# Altium footprint library texas_insturments_interface_LVDS.PcbLib: 6 footprints
Each footprint in its own frame and in the unit in brackets; x right, y up, seen from the top. Pads: shape width x height; smd on the part's side, far side on the other; paste and mask are expansions set on the pad; w line width, h text height; cw(c..) or ccw(c..) is an arc to the next point about the centre after c.
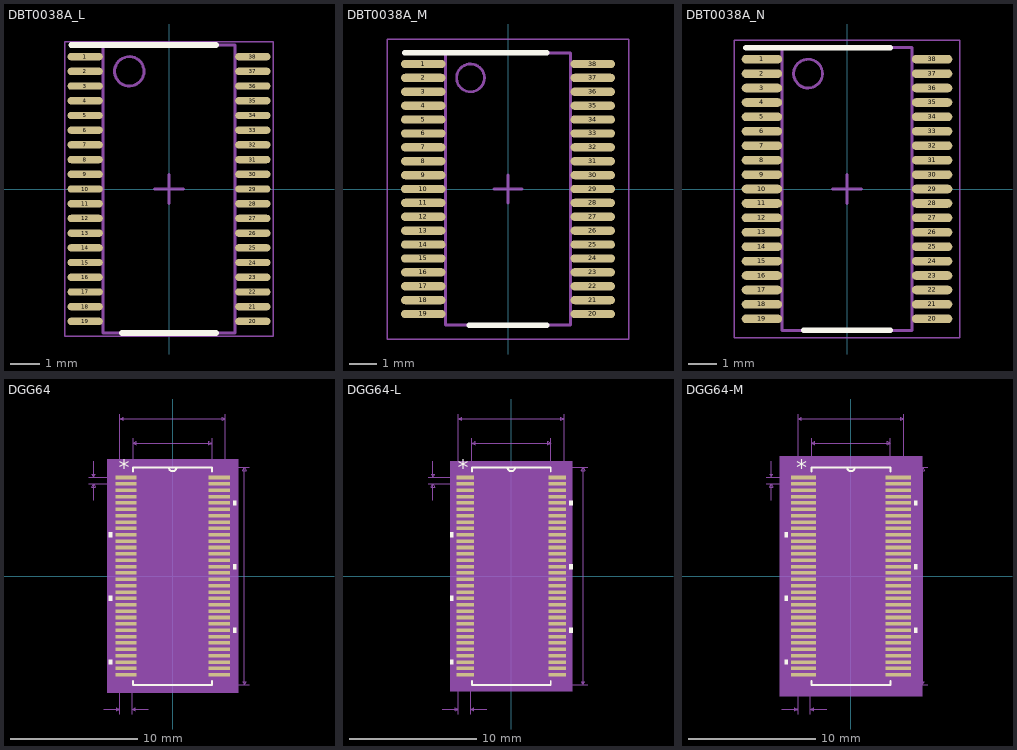
[diagram p0: the footprints below, top view; thin cyan lines are the x and y axes]

## DBT0038A_L [mm]
pads (38):
  oval 1.2x0.25 smd paste+0 mask+0: 1(-2.85,4.5) 2(-2.85,4) 3(-2.85,3.5) 4(-2.85,3) 5(-2.85,2.5) 6(-2.85,2) 7(-2.85,1.5) 8(-2.85,1) 9(-2.85,0.5) 10(-2.85,0) 11(-2.85,-0.5) 12(-2.85,-1) 13(-2.85,-1.5) 14(-2.85,-2) 15(-2.85,-2.5) 16(-2.85,-3) 17(-2.85,-3.5) 18(-2.85,-4) 19(-2.85,-4.5) 20(2.85,-4.5) 21(2.85,-4) 22(2.85,-3.5) 23(2.85,-3) 24(2.85,-2.5) 25(2.85,-2) 26(2.85,-1.5) 27(2.85,-1) 28(2.85,-0.5) 29(2.85,0) 30(2.85,0.5) 31(2.85,1) 32(2.85,1.5) 33(2.85,2) 34(2.85,2.5) 35(2.85,3) 36(2.85,3.5) 37(2.85,4) 38(2.85,4.5)
Top Overlay:
  lines w0.2: -3.325,4.9 1.6,4.9 ; -1.6,-4.9 1.6,-4.9
Top Fab Assembly - M13:
  circle w0.1: c-1.35,4 r0.5
  lines w0.1: -2.25,-4.9 2.25,-4.9 2.25,4.9 -2.25,4.9 -2.25,-4.9
  text ".Designator" at -1.854,-1.143 h1.27
Top Courtyard - M15:
  lines w0.05: -3.55,-5 -3.55,5 3.55,5 3.55,-5 -3.55,-5
  lines w0.1: -0.5,0 0.5,0 ; 0,-0.5 0,0.5
3D body: height 0.25, standoff 0, extent 0,0 0.254,0.254

## DBT0038A_M [mm]
pads (38):
  oval 1.6x0.3 smd paste+0 mask+0: 1(-3.05,4.5) 2(-3.05,4) 3(-3.05,3.5) 4(-3.05,3) 5(-3.05,2.5) 6(-3.05,2) 7(-3.05,1.5) 8(-3.05,1) 9(-3.05,0.5) 10(-3.05,0) 11(-3.05,-0.5) 12(-3.05,-1) 13(-3.05,-1.5) 14(-3.05,-2) 15(-3.05,-2.5) 16(-3.05,-3) 17(-3.05,-3.5) 18(-3.05,-4) 19(-3.05,-4.5) 20(3.05,-4.5) 21(3.05,-4) 22(3.05,-3.5) 23(3.05,-3) 24(3.05,-2.5) 25(3.05,-2) 26(3.05,-1.5) 27(3.05,-1) 28(3.05,-0.5) 29(3.05,0) 30(3.05,0.5) 31(3.05,1) 32(3.05,1.5) 33(3.05,2) 34(3.05,2.5) 35(3.05,3) 36(3.05,3.5) 37(3.05,4) 38(3.05,4.5)
Top Overlay:
  lines w0.2: -3.725,4.9 1.4,4.9 ; -1.4,-4.9 1.4,-4.9
Top Fab Assembly - M13:
  circle w0.1: c-1.35,4 r0.5
  lines w0.1: -2.25,-4.9 2.25,-4.9 2.25,4.9 -2.25,4.9 -2.25,-4.9
  text ".Designator" at -1.854,-1.143 h1.27
Top Courtyard - M15:
  lines w0.05: -4.35,-5.4 -4.35,5.4 4.35,5.4 4.35,-5.4 -4.35,-5.4
  lines w0.1: -0.5,0 0.5,0 ; 0,-0.5 0,0.5
3D body: height 0.25, standoff 0, extent 0,0 0.254,0.254

## DBT0038A_N [mm]
pads (38):
  oval 1.4x0.3 smd paste+0 mask+0: 1(-2.95,4.5) 2(-2.95,4) 3(-2.95,3.5) 4(-2.95,3) 5(-2.95,2.5) 6(-2.95,2) 7(-2.95,1.5) 8(-2.95,1) 9(-2.95,0.5) 10(-2.95,0) 11(-2.95,-0.5) 12(-2.95,-1) 13(-2.95,-1.5) 14(-2.95,-2) 15(-2.95,-2.5) 16(-2.95,-3) 17(-2.95,-3.5) 18(-2.95,-4) 19(-2.95,-4.5) 20(2.95,-4.5) 21(2.95,-4) 22(2.95,-3.5) 23(2.95,-3) 24(2.95,-2.5) 25(2.95,-2) 26(2.95,-1.5) 27(2.95,-1) 28(2.95,-0.5) 29(2.95,0) 30(2.95,0.5) 31(2.95,1) 32(2.95,1.5) 33(2.95,2) 34(2.95,2.5) 35(2.95,3) 36(2.95,3.5) 37(2.95,4) 38(2.95,4.5)
Top Overlay:
  lines w0.2: -3.5,4.9 1.5,4.9 ; -1.5,-4.9 1.5,-4.9
Top Fab Assembly - M13:
  circle w0.1: c-1.35,4 r0.5
  lines w0.1: -2.25,-4.9 -2.25,4.9 2.25,4.9 2.25,-4.9 -2.25,-4.9
  text ".Designator" at -1.854,-1.143 h1.27
Top Courtyard - M15:
  lines w0.05: -3.9,-5.15 -3.9,5.15 3.9,5.15 3.9,-5.15 -3.9,-5.15
  lines w0.1: -0.5,0 0.5,0 ; 0,-0.5 0,0.5
3D body: height 0.25, standoff 0, extent 0,0 0.254,0.254
3D body "DBT0038A.stp": height 1.13, standoff 0, extent -3.2,-4.85 3.2,4.85

## DGG64 [mil]
pads (64):
  rect 66x11 smd: 1(-144.5,305.12) 2(-144.5,285.43) 3(-144.5,265.75) 4(-144.5,246.06) 5(-144.5,226.38) 6(-144.5,206.69) 7(-144.5,187.01) 8(-144.5,167.32) 9(-144.5,147.64) 10(-144.5,127.95) 11(-144.5,108.27) 12(-144.5,88.58) 13(-144.5,68.9) 14(-144.5,49.21) 15(-144.5,29.53) 16(-144.5,9.84) 17(-144.5,-9.84) 18(-144.5,-29.53) 19(-144.5,-49.21) 20(-144.5,-68.9) 21(-144.5,-88.58) 22(-144.5,-108.27) 23(-144.5,-127.95) 24(-144.5,-147.64) 25(-144.5,-167.32) 26(-144.5,-187.01) 27(-144.5,-206.69) 28(-144.5,-226.38) 29(-144.5,-246.06) 30(-144.5,-265.75) 31(-144.5,-285.43) 32(-144.5,-305.12) 33(144.5,-305.12) 34(144.5,-285.43) 35(144.5,-265.75) 36(144.5,-246.06) 37(144.5,-226.38) 38(144.5,-206.69) 39(144.5,-187.01) 40(144.5,-167.32) 41(144.5,-147.64) 42(144.5,-127.95) 43(144.5,-108.27) 44(144.5,-88.58) 45(144.5,-68.9) 46(144.5,-49.21) 47(144.5,-29.53) 48(144.5,-9.84) 49(144.5,9.84) 50(144.5,29.53) 51(144.5,49.21) 52(144.5,68.9) 53(144.5,88.58) 54(144.5,108.27) 55(144.5,127.95) 56(144.5,147.64) 57(144.5,167.32) 58(144.5,187.01) 59(144.5,206.69) 60(144.5,226.38) 61(144.5,246.06) 62(144.5,265.75) 63(144.5,285.43) 64(144.5,305.12)
Top Overlay:
  region: 187.5,233.88 197.5,233.88 197.5,218.88 187.5,218.88
  region: 187.5,37.03 197.5,37.03 197.5,22.03 187.5,22.03
  region: 187.5,-159.82 197.5,-159.82 197.5,-174.82 187.5,-174.82
  region: -187.5,-258.25 -197.5,-258.25 -197.5,-273.25 -187.5,-273.25
  region: -187.5,-61.4 -197.5,-61.4 -197.5,-76.4 -187.5,-76.4
  region: -187.5,135.45 -197.5,135.45 -197.5,120.45 -187.5,120.45
  lines w6: -122,-323.72 -122,-336.5 122,-336.5 122,-323.72 ; -122,323.72 -122,336.5 122,336.5 122,323.72 ; -12,336.5 ccw(c0,336.5) 12,336.5
  text "*" at -167,311.12 h50
Mechanical 5:
  region: 202.5,-361.5 -202.5,-361.5 -202.5,361.5 202.5,361.5
Mechanical 7:
  lines w1: -259.5,285.43 -144.5,285.43 ; -259.5,305.12 -144.5,305.12 ; -244.5,235.43 -244.5,285.43 ; -244.5,355.12 -244.5,305.12 ; -213.5,-411.5 -163.5,-411.5 ; -163.5,-426.5 -163.5,0 -163.5,501.5 ; -125.5,-426.5 -125.5,0 ; -122,0 -122,426.5 ; -75.5,-411.5 -125.5,-411.5 ; 0,-336.5 237,-336.5 ; 0,336.5 237,336.5 ; 122,0 122,426.5 ; 163.5,0 163.5,501.5 ; -244.5,285.43 -239.5,275.43 -249.5,275.43 -244.5,285.43 ; -244.5,305.12 -239.5,315.12 -249.5,315.12 -244.5,305.12 ; -163.5,-411.5 -173.5,-416.5 -173.5,-406.5 -163.5,-411.5 ; -163.5,486.5 -153.5,481.5 -153.5,491.5 -163.5,486.5 ; -163.5,486.5 163.5,486.5 ; -125.5,-411.5 -115.5,-416.5 -115.5,-406.5 -125.5,-411.5 ; -122,411.5 -112,406.5 -112,416.5 -122,411.5 ; -122,411.5 122,411.5 ; 122,411.5 112,406.5 112,416.5 122,411.5 ; 163.5,486.5 153.5,481.5 153.5,491.5 163.5,486.5 ; 222,-336.5 227,-326.5 217,-326.5 222,-336.5 ; 222,-336.5 222,336.5 ; 222,336.5 227,326.5 217,326.5 222,336.5
  text ".03in/.762mm" at -219.5,-456.5 h25
  text "1.968504E-02in/.5mm" at -502,282.78 h25
  text ".673in/17.094mm" at 242,-12.5 h25
  text ".327in/8.306mm" at -87.5,506.5 h25
  text ".244in/6.198mm" at -87.5,431.5 h25
  text "Alt 2 Padstyle: OX90Y60D30P" at -337.5,-761.5 h50
  text "Alt 1 Padstyle: OX60Y90D30P" at -337.5,-686.5 h50
  text "Pin One Padstyle: RX66Y11D0T" at -350,-611.5 h50
  text "Default Padstyle: RX66Y11D0T" at -350,-536.5 h50
Top Fab Assembly - M13:
  drawing of 261 lines, arcs and shapes, not listed
  text "*" at -167,311.12 h50
Top Courtyard - M15:
  region: 187.5,-346.5 -187.5,-346.5 -187.5,346.5 187.5,346.5
  lines w6: -187.5,-346.5 187.5,-346.5 187.5,346.5 -187.5,346.5 -187.5,-346.5
3D body: height 10, standoff 0, extent 0,0 10,10
3D body "DGG64.step": height 47.09, standoff 0, extent -163.5,-336.49 163.51,336.5

## DGG64-L [mil]
pads (64):
  rect 54x11 smd: 1(-142.5,305.12) 2(-142.5,285.43) 3(-142.5,265.75) 4(-142.5,246.06) 5(-142.5,226.38) 6(-142.5,206.69) 7(-142.5,187.01) 8(-142.5,167.32) 9(-142.5,147.64) 10(-142.5,127.95) 11(-142.5,108.27) 12(-142.5,88.58) 13(-142.5,68.9) 14(-142.5,49.21) 15(-142.5,29.53) 16(-142.5,9.84) 17(-142.5,-9.84) 18(-142.5,-29.53) 19(-142.5,-49.21) 20(-142.5,-68.9) 21(-142.5,-88.58) 22(-142.5,-108.27) 23(-142.5,-127.95) 24(-142.5,-147.64) 25(-142.5,-167.32) 26(-142.5,-187.01) 27(-142.5,-206.69) 28(-142.5,-226.38) 29(-142.5,-246.06) 30(-142.5,-265.75) 31(-142.5,-285.43) 32(-142.5,-305.12) 33(142.5,-305.12) 34(142.5,-285.43) 35(142.5,-265.75) 36(142.5,-246.06) 37(142.5,-226.38) 38(142.5,-206.69) 39(142.5,-187.01) 40(142.5,-167.32) 41(142.5,-147.64) 42(142.5,-127.95) 43(142.5,-108.27) 44(142.5,-88.58) 45(142.5,-68.9) 46(142.5,-49.21) 47(142.5,-29.53) 48(142.5,-9.84) 49(142.5,9.84) 50(142.5,29.53) 51(142.5,49.21) 52(142.5,68.9) 53(142.5,88.58) 54(142.5,108.27) 55(142.5,127.95) 56(142.5,147.64) 57(142.5,167.32) 58(142.5,187.01) 59(142.5,206.69) 60(142.5,226.38) 61(142.5,246.06) 62(142.5,265.75) 63(142.5,285.43) 64(142.5,305.12)
Top Overlay:
  region: -179.5,135.45 -189.5,135.45 -189.5,120.45 -179.5,120.45
  region: -179.5,-61.4 -189.5,-61.4 -189.5,-76.4 -179.5,-76.4
  region: -179.5,-258.25 -189.5,-258.25 -189.5,-273.25 -179.5,-273.25
  region: 179.5,-159.82 189.5,-159.82 189.5,-174.82 179.5,-174.82
  region: 179.5,37.03 189.5,37.03 189.5,22.03 179.5,22.03
  region: 179.5,233.88 189.5,233.88 189.5,218.88 179.5,218.88
  lines w6: -122,-323.72 -122,-336.5 122,-336.5 122,-323.72 ; -122,323.72 -122,336.5 122,336.5 122,323.72 ; -12,336.5 ccw(c0,336.5) 12,336.5
  text "*" at -165,311.12 h50
Mechanical 5:
  region: 188.5,-355.5 -188.5,-355.5 -188.5,355.5 188.5,355.5
Mechanical 7:
  lines w1: -257.5,285.43 -142.5,285.43 ; -257.5,305.12 -142.5,305.12 ; -242.5,235.43 -242.5,285.43 ; -242.5,355.12 -242.5,305.12 ; -213.5,-411.5 -163.5,-411.5 ; -163.5,-426.5 -163.5,0 -163.5,501.5 ; -125.5,-426.5 -125.5,0 ; -122,0 -122,426.5 ; -75.5,-411.5 -125.5,-411.5 ; 0,-336.5 237,-336.5 ; 0,336.5 237,336.5 ; 122,0 122,426.5 ; 163.5,0 163.5,501.5 ; -242.5,285.43 -247.5,275.43 -237.5,275.43 -242.5,285.43 ; -242.5,305.12 -247.5,315.12 -237.5,315.12 -242.5,305.12 ; -163.5,-411.5 -173.5,-406.5 -173.5,-416.5 -163.5,-411.5 ; -163.5,486.5 163.5,486.5 ; -163.5,486.5 -153.5,491.5 -153.5,481.5 -163.5,486.5 ; -125.5,-411.5 -115.5,-406.5 -115.5,-416.5 -125.5,-411.5 ; -122,411.5 122,411.5 ; -122,411.5 -112,416.5 -112,406.5 -122,411.5 ; 122,411.5 112,416.5 112,406.5 122,411.5 ; 163.5,486.5 153.5,491.5 153.5,481.5 163.5,486.5 ; 222,-336.5 222,336.5 ; 222,-336.5 217,-326.5 227,-326.5 222,-336.5 ; 222,336.5 217,326.5 227,326.5 222,336.5
  text "Default Padstyle: RX54Y11D0T" at -350,-536.5 h50
  text "Pin One Padstyle: RX54Y11D0T" at -350,-611.5 h50
  text "Alt 1 Padstyle: OX60Y90D30P" at -337.5,-686.5 h50
  text "Alt 2 Padstyle: OX90Y60D30P" at -337.5,-761.5 h50
  text ".244in/6.198mm" at -87.5,431.5 h25
  text ".327in/8.306mm" at -87.5,506.5 h25
  text ".673in/17.094mm" at 242,-12.5 h25
  text "1.968504E-02in/.5mm" at -500,282.78 h25
  text ".03in/.762mm" at -219.5,-456.5 h25
Top Fab Assembly - M13:
  drawing of 261 lines, arcs and shapes, not listed
  text "*" at -165,311.12 h50
Top Courtyard - M15:
  region: 173.5,-340.5 -173.5,-340.5 -173.5,340.5 173.5,340.5
  lines w6: -173.5,-340.5 -173.5,340.5 173.5,340.5 173.5,-340.5 -173.5,-340.5
3D body: height 10, standoff 0, extent 0,0 10,10

## DGG64-M [mil]
pads (64):
  rect 78x11 smd: 1(-146.5,305.12) 2(-146.5,285.43) 3(-146.5,265.75) 4(-146.5,246.06) 5(-146.5,226.38) 6(-146.5,206.69) 7(-146.5,187.01) 8(-146.5,167.32) 9(-146.5,147.64) 10(-146.5,127.95) 11(-146.5,108.27) 12(-146.5,88.58) 13(-146.5,68.9) 14(-146.5,49.21) 15(-146.5,29.53) 16(-146.5,9.84) 17(-146.5,-9.84) 18(-146.5,-29.53) 19(-146.5,-49.21) 20(-146.5,-68.9) 21(-146.5,-88.58) 22(-146.5,-108.27) 23(-146.5,-127.95) 24(-146.5,-147.64) 25(-146.5,-167.32) 26(-146.5,-187.01) 27(-146.5,-206.69) 28(-146.5,-226.38) 29(-146.5,-246.06) 30(-146.5,-265.75) 31(-146.5,-285.43) 32(-146.5,-305.12) 33(146.5,-305.12) 34(146.5,-285.43) 35(146.5,-265.75) 36(146.5,-246.06) 37(146.5,-226.38) 38(146.5,-206.69) 39(146.5,-187.01) 40(146.5,-167.32) 41(146.5,-147.64) 42(146.5,-127.95) 43(146.5,-108.27) 44(146.5,-88.58) 45(146.5,-68.9) 46(146.5,-49.21) 47(146.5,-29.53) 48(146.5,-9.84) 49(146.5,9.84) 50(146.5,29.53) 51(146.5,49.21) 52(146.5,68.9) 53(146.5,88.58) 54(146.5,108.27) 55(146.5,127.95) 56(146.5,147.64) 57(146.5,167.32) 58(146.5,187.01) 59(146.5,206.69) 60(146.5,226.38) 61(146.5,246.06) 62(146.5,265.75) 63(146.5,285.43) 64(146.5,305.12)
Top Overlay:
  region: 195.5,233.88 205.5,233.88 205.5,218.88 195.5,218.88
  region: 195.5,37.03 205.5,37.03 205.5,22.03 195.5,22.03
  region: 195.5,-159.82 205.5,-159.82 205.5,-174.82 195.5,-174.82
  region: -195.5,-258.25 -205.5,-258.25 -205.5,-273.25 -195.5,-273.25
  region: -195.5,-61.4 -205.5,-61.4 -205.5,-76.4 -195.5,-76.4
  region: -195.5,135.45 -205.5,135.45 -205.5,120.45 -195.5,120.45
  lines w6: -122,-323.72 -122,-336.5 122,-336.5 122,-323.72 ; -122,323.72 -122,336.5 122,336.5 122,323.72 ; -12,336.5 ccw(c0,336.5) 12,336.5
  text "*" at -169,311.12 h50
Mechanical 5:
  region: 220.5,-371.5 -220.5,-371.5 -220.5,371.5 220.5,371.5
Mechanical 7:
  lines w1: -261.5,285.43 -146.5,285.43 ; -261.5,305.12 -146.5,305.12 ; -246.5,235.43 -246.5,285.43 ; -246.5,355.12 -246.5,305.12 ; -213.5,-411.5 -163.5,-411.5 ; -163.5,-426.5 -163.5,0 -163.5,501.5 ; -125.5,-426.5 -125.5,0 ; -122,0 -122,426.5 ; -75.5,-411.5 -125.5,-411.5 ; 0,-336.5 237,-336.5 ; 0,336.5 237,336.5 ; 122,0 122,426.5 ; 163.5,0 163.5,501.5 ; -246.5,285.43 -241.5,275.43 -251.5,275.43 -246.5,285.43 ; -246.5,305.12 -241.5,315.12 -251.5,315.12 -246.5,305.12 ; -163.5,-411.5 -173.5,-416.5 -173.5,-406.5 -163.5,-411.5 ; -163.5,486.5 -153.5,481.5 -153.5,491.5 -163.5,486.5 ; -163.5,486.5 163.5,486.5 ; -125.5,-411.5 -115.5,-416.5 -115.5,-406.5 -125.5,-411.5 ; -122,411.5 -112,406.5 -112,416.5 -122,411.5 ; -122,411.5 122,411.5 ; 122,411.5 112,406.5 112,416.5 122,411.5 ; 163.5,486.5 153.5,481.5 153.5,491.5 163.5,486.5 ; 222,-336.5 227,-326.5 217,-326.5 222,-336.5 ; 222,-336.5 222,336.5 ; 222,336.5 227,326.5 217,326.5 222,336.5
  text ".03in/.762mm" at -219.5,-456.5 h25
  text "1.968504E-02in/.5mm" at -504,282.78 h25
  text ".673in/17.094mm" at 242,-12.5 h25
  text ".327in/8.306mm" at -87.5,506.5 h25
  text ".244in/6.198mm" at -87.5,431.5 h25
  text "Alt 2 Padstyle: OX90Y60D30P" at -337.5,-761.5 h50
  text "Alt 1 Padstyle: OX60Y90D30P" at -337.5,-686.5 h50
  text "Pin One Padstyle: RX78Y11D0T" at -350,-611.5 h50
  text "Default Padstyle: RX78Y11D0T" at -350,-536.5 h50
Top Fab Assembly - M13:
  drawing of 261 lines, arcs and shapes, not listed
  text "*" at -169,311.12 h50
Top Courtyard - M15:
  region: 205.5,-356.5 -205.5,-356.5 -205.5,356.5 205.5,356.5
  lines w6: -205.5,-356.5 205.5,-356.5 205.5,356.5 -205.5,356.5 -205.5,-356.5
3D body: height 10, standoff 0, extent 0,0 10,10